# EAGLE library part 74C922 (library custom)
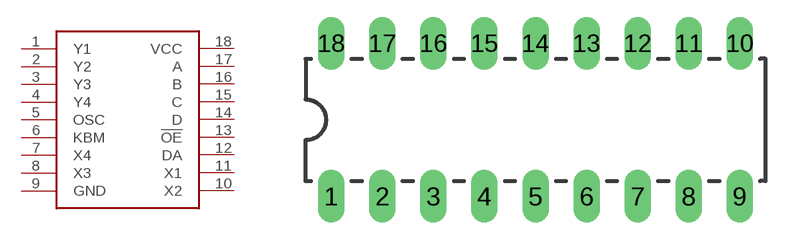
[diagram p8: symbol with the pads of DIL18; footprint DIL18]

Designator prefix -

## 74C922DIL18  [DIL18]
1  Y1
2  Y2
3  Y3
4  Y4
5  OSC
6  KBM
7  X4
8  X3
9  GND
10  X2
11  X1
12  DA
13  !OE
14  D
15  C
16  B
17  A
18  VCC

## Footprint DIL18 (pad centres in mm)
Dual In Line Package
drill 0.813 long: 1 -10.16,-3.81; 2 -7.62,-3.81; 3 -5.08,-3.81; 4 -2.54,-3.81; 5 0,-3.81; 6 2.54,-3.81; 7 5.08,-3.81; 8 7.62,-3.81; 9 10.16,-3.81; 10 10.16,3.81; 11 7.62,3.81; 12 5.08,3.81; 13 2.54,3.81; 14 0,3.81; 15 -2.54,3.81; 16 -5.08,3.81; 17 -7.62,3.81; 18 -10.16,3.81